# Altium schematic symbol library 10-Transistor.SchLib: 5 symbols
Pins are listed as number, name and electrical type; pins without a type are passive.

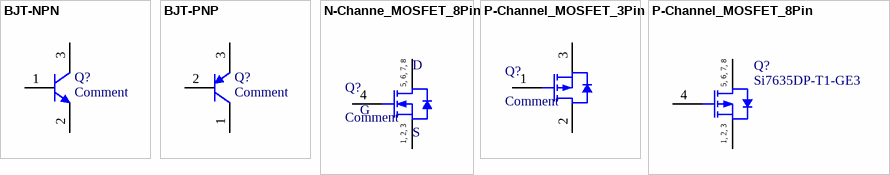
[diagram p0: symbols BJT-NPN to P-Channel_MOSFET_8Pin]

## BJT-NPN
designator Q?, comment Comment
PartNumber: MMBT2222A-7-F; Manufacturer: Diodes Inc; ComponentLink1URL: http://www.diodes.com/; ComponentLink2Description: Datasheet; PackageReference: SOT23-3; ComponentLink1Description: Manufacturer URL; ComponentLink2URL: http://www.diodes.com/_files/datasheets/ds30041.pdf; PackageDescription: 3-Pin Small Outline Transistor, Body 2.9 x 1.3 mm, Pitch 0.95 mm; DatasheetVersion: Rev. 16 - 2; Mounting Technology: Surface Mount
pins: 1 B, 2 E, 3 C

## BJT-PNP
designator Q?, comment Comment
PartNumber: MMBT2222A-7-F; Manufacturer: Diodes Inc; ComponentLink1URL: http://www.diodes.com/; ComponentLink2Description: Datasheet; PackageReference: SOT23-3; ComponentLink1Description: Manufacturer URL; ComponentLink2URL: http://www.diodes.com/_files/datasheets/ds30041.pdf; PackageDescription: 3-Pin Small Outline Transistor, Body 2.9 x 1.3 mm, Pitch 0.95 mm; DatasheetVersion: Rev. 16 - 2; Mounting Technology: Surface Mount
pins: 1 C, 2 B, 3 E

## N-Channe_MOSFET_8Pin
designator Q?, comment Comment
pins: 1 S, 2 S, 3 S, 4 G, 5 D, 6 D, 7 D, 8 D
text: 5, 6, 7, 8; 1, 2, 3

## P-Channel_MOSFET_3Pin
designator Q?, comment Comment
pins: 1 GATE, 2 DRAIN, 3 SOURCE

## P-Channel_MOSFET_8Pin
designator Q?, comment Si7635DP-T1-GE3
PartNumber: Si7635DP-T1-GE3; ComponentLink2URL: http://www.vishay.com/docs/65021/si7635dp.pdf; ComponentLink2Description: Datasheet; ComponentLink1URL: http://www.vishay.com/; Mounting Technology: Surface Mount; DatasheetVersion: Rev. B; PackageDescription: 8-Pin Surface Mount Device, Body 4.9 x 5.89 mm, Pitch 1.27 mm; ComponentLink1Description: Manufacturer URL
footprint VISH-PPAKSO-8_V (SMD, 8-Leads, Body 4.9x5.89mm, Pitch 1.27mm)
pins: 1 S, 2 S, 3 S, 4 G, 5 D, 6 D, 7 D, 8 D
text: 5, 6, 7, 8; 1, 2, 3